# Altium schematic symbol library IC.SchLib: 26 symbols
Pins are listed as number, name and electrical type; pins without a type are passive.

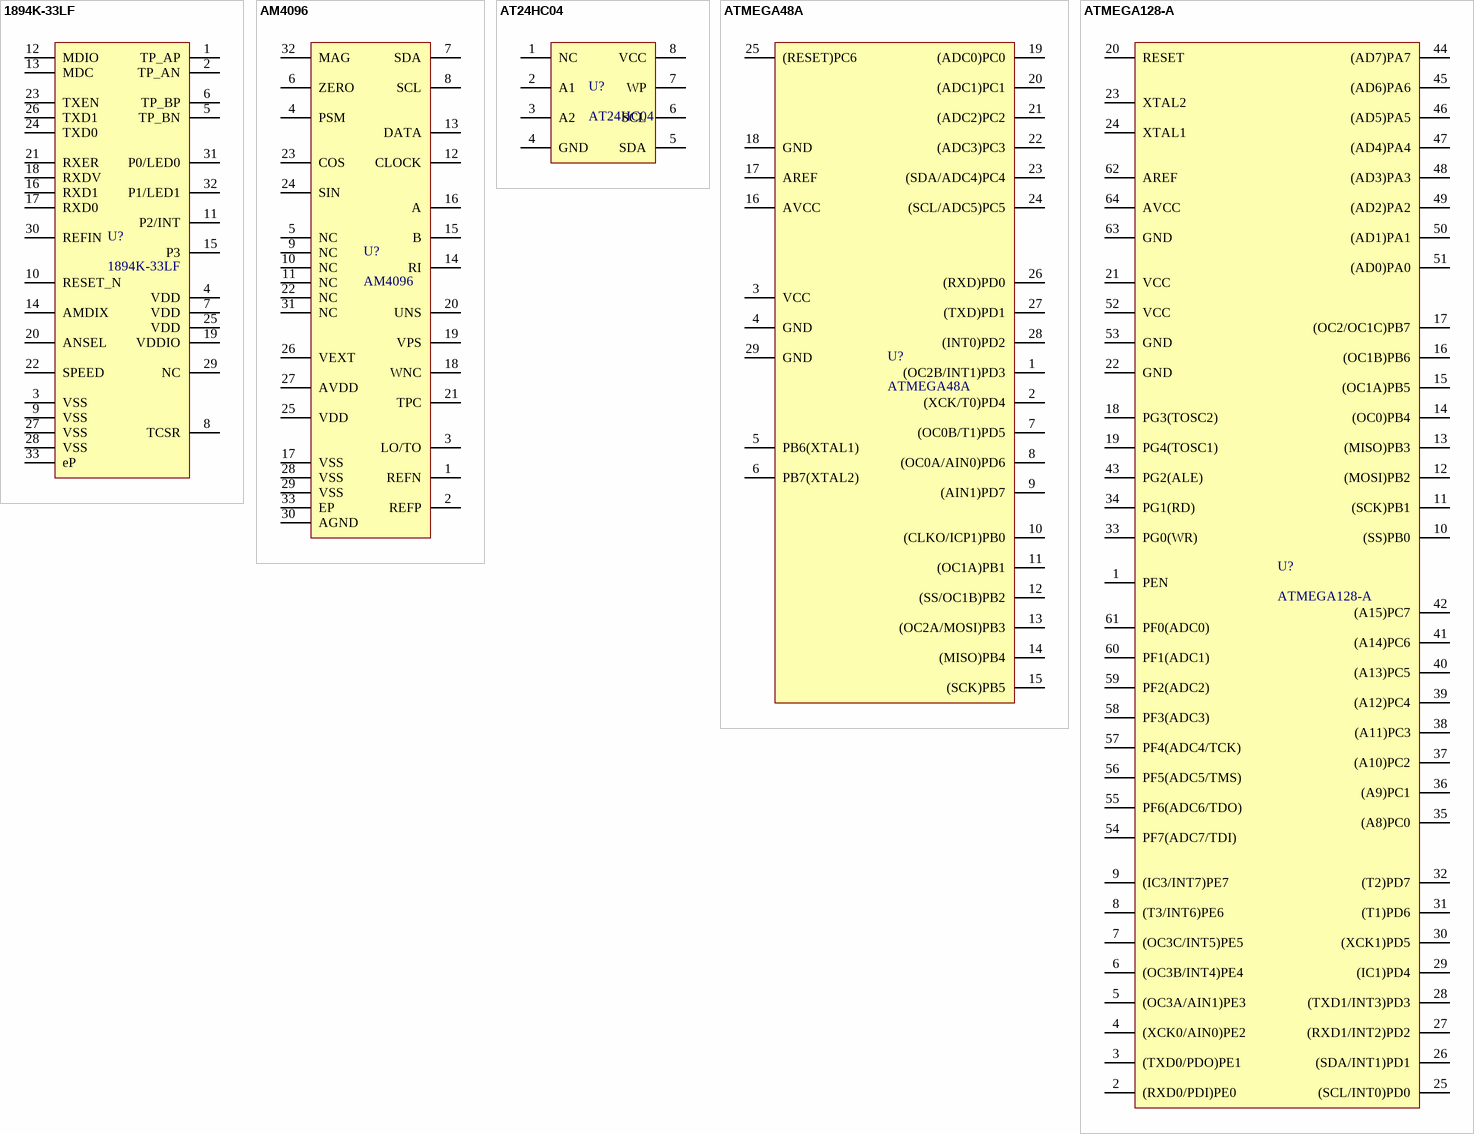
[diagram p0: symbols 1894K-33LF to ATMEGA128-A]

## 1894K-33LF
designator U?
Ethernet ICs 3.3V 10/100 PHY RMII; Manufacturer: Renesas; Distributor: Mouser; Distributor ID: 972-1894K-33LF; Part Number: 1894K-33LF
footprint QFN50P500X500X100_HS-33N (QFN, 32-Leads, Body 5.00x5.00mm, Pitch 0.50mm, Thermal Pad 3.15x3.15mm, IPC Medium Density)
pins: 1 TP_AP, 2 TP_AN, 3 VSS, 4 VDD, 5 TP_BN, 6 TP_BP, 7 VDD, 8 TCSR, 9 VSS, 10 RESET_N, 11 P2/INT, 12 MDIO, 13 MDC, 14 AMDIX, 15 P3, 16 RXD1, 17 RXD0, 18 RXDV, 19 VDDIO, 20 ANSEL, 21 RXER, 22 SPEED, 23 TXEN, 24 TXD0, 25 VDD, 26 TXD1, 27 VSS, 28 VSS, 29 NC, 30 REFIN, 31 P0/LED0, 32 P1/LED1, 33 eP

## AM4096
designator U?
12 bit Rotary Magnetic Encoder IC; Manufacturer: RLS; Distributor: RLS; Distributor ID: AM4096; Part Number: AM4096
footprint QFN65P600X600X100_HS-33N (QFN, 32-Leads, Body 6.00x6.00mm, Pitch 0.65mm, Thermal Pad 4.65x4.65mm, IPC Medium Density)
pins: 1 REFN, 2 REFP, 3 LO/TO, 4 PSM, 5 NC, 6 ZERO, 7 SDA, 8 SCL, 9 NC, 10 NC, 11 NC, 12 CLOCK, 13 DATA, 14 RI, 15 B, 16 A, 17 VSS, 18 WNC, 19 VPS, 20 UNS, 21 TPC, 22 NC, 23 COS, 24 SIN, 25 VDD, 26 VEXT, 27 AVDD, 28 VSS, 29 VSS, 30 AGND, 31 NC, 32 MAG, 33 EP

## AT24HC04
designator U?
EEPROM 4K - 512 x 9 1.8V to 5.5V supply; Manufacturer: Atmel; Part Number: AT24HC04BN-SH-T; Distributor: Mouser; Distributor ID: 556-AT24HC04BN-SH-T
footprint SOIC-8
pins: 1 NC, 2 A1, 3 A2, 4 GND, 5 SDA, 6 SCL, 7 WP, 8 VCC

## ATMEGA48A
designator U?
8-bit Microcontrollers - MCU AVR 4KB FLSH 256B EE 512B SRAM-20MHz IND; Manufacturer: Atmel; Part Number: ATMEGA48A-MMHR; Distributor: Mouser; Distributor ID: 556-ATMEGA48A-MMHR
footprint QFN45P400X400X100_HS-29N (QFN, 28-Leads, Body 4.00x4.00mm, Pitch 0.45mm, Thermal Pad 2.40x2.40mm, IPC Medium Density)
pins: 1 (OC2B/INT1)PD3, 2 (XCK/T0)PD4, 3 VCC, 4 GND, 5 PB6(XTAL1), 6 PB7(XTAL2), 7 (OC0B/T1)PD5, 8 (OC0A/AIN0)PD6, 9 (AIN1)PD7, 10 (CLKO/ICP1)PB0, 11 (OC1A)PB1, 12 (SS/OC1B)PB2, 13 (OC2A/MOSI)PB3, 14 (MISO)PB4, 15 (SCK)PB5, 16 AVCC, 17 AREF, 18 GND, 19 (ADC0)PC0, 20 (ADC1)PC1, 21 (ADC2)PC2, 22 (ADC3)PC3, 23 (SDA/ADC4)PC4, 24 (SCL/ADC5)PC5, 25 (RESET)PC6, 26 (RXD)PD0, 27 (TXD)PD1, 28 (INT0)PD2, 29 GND

## ATMEGA128-A
designator U?
8-bit Microcontrollers - MCU 128K Flash 4K EEPROM 4K SRAM 53 IO Pins; Manufacturer: Atmel; Part Number: ATMEGA128A-AU; Distributor: Mouser; Distributor ID: 556-ATMEGA128A-AU
footprint TQFP64 (CQFP, 64-Leads, Body 16,00x16,00mm, Pitch 0,80mm, IPC Medium Density)
pins: 1 PEN, 2 (RXD0/PDI)PE0, 3 (TXD0/PDO)PE1, 4 (XCK0/AIN0)PE2, 5 (OC3A/AIN1)PE3, 6 (OC3B/INT4)PE4, 7 (OC3C/INT5)PE5, 8 (T3/INT6)PE6, 9 (IC3/INT7)PE7, 10 (SS)PB0, 11 (SCK)PB1, 12 (MOSI)PB2, 13 (MISO)PB3, 14 (OC0)PB4, 15 (OC1A)PB5, 16 (OC1B)PB6, 17 (OC2/OC1C)PB7, 18 PG3(TOSC2), 19 PG4(TOSC1), 20 RESET, 21 VCC, 22 GND, 23 XTAL2, 24 XTAL1, 25 (SCL/INT0)PD0, 26 (SDA/INT1)PD1, 27 (RXD1/INT2)PD2, 28 (TXD1/INT3)PD3, 29 (IC1)PD4, 30 (XCK1)PD5, 31 (T1)PD6, 32 (T2)PD7, 33 PG0(WR), 34 PG1(RD), 35 (A8)PC0, 36 (A9)PC1, 37 (A10)PC2, 38 (A11)PC3, 39 (A12)PC4, 40 (A13)PC5, 41 (A14)PC6, 42 (A15)PC7, 43 PG2(ALE), 44 (AD7)PA7, 45 (AD6)PA6, 46 (AD5)PA5, 47 (AD4)PA4, 48 (AD3)PA3, 49 (AD2)PA2, 50 (AD1)PA1, 51 (AD0)PA0, 52 VCC, 53 GND, 54 PF7(ADC7/TDI), 55 PF6(ADC6/TDO), 56 PF5(ADC5/TMS), 57 PF4(ADC4/TCK), 58 PF3(ADC3), 59 PF2(ADC2), 60 PF1(ADC1), 61 PF0(ADC0), 62 AREF, 63 GND, 64 AVCC

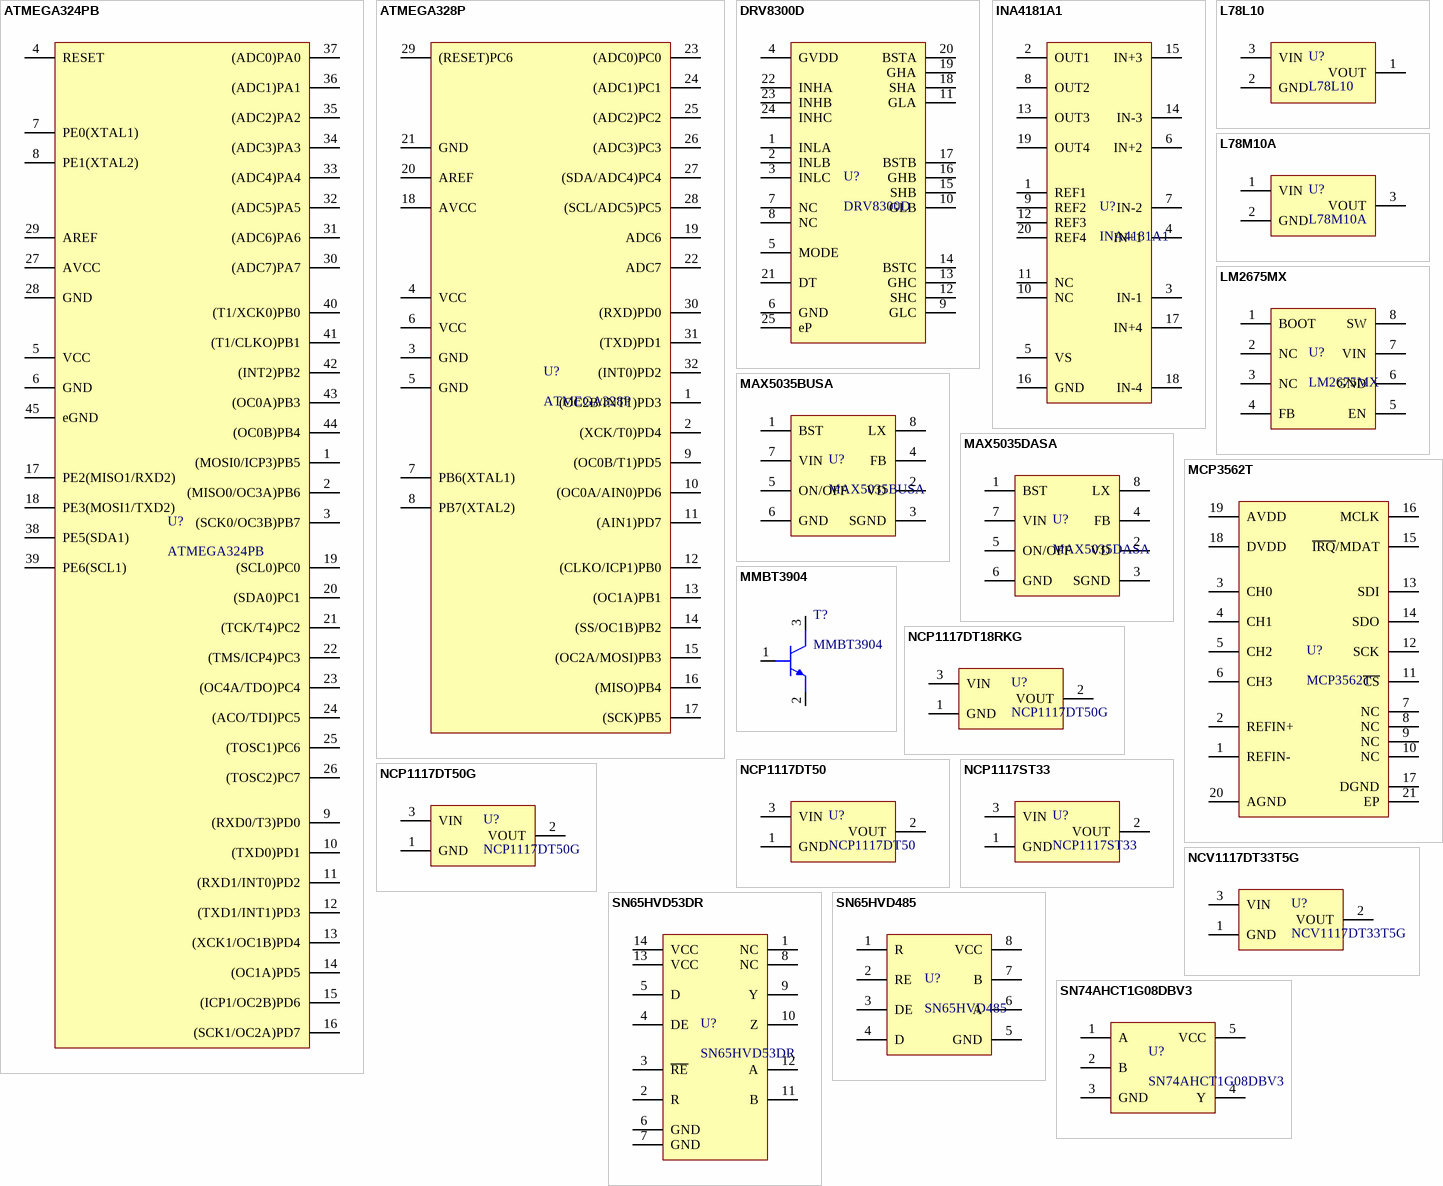
[diagram p1: symbols ATMEGA324PB to SN74AHCT1G08DBV3]

## ATMEGA324PB
designator U?
8-bit Microcontrollers - MCU 20MHZ, TQFP, Extended TEMP, GREEN 5 V; Manufacturer: Atmel; Part Number: ATMEGA324PB-AN; Distributor: Mouser; Distributor ID: 556-ATMEGA324PB-AN
footprint QFN50P700X700X100_HS-45N (QFN, 44-Leads, Body 7.00x7.00mm, Pitch 0.50mm, Thermal Pad 5.20x5.20mm, IPC Medium Density)
pins: 1 (MOSI0/ICP3)PB5, 2 (MISO0/OC3A)PB6, 3 (SCK0/OC3B)PB7, 4 RESET, 5 VCC, 6 GND, 7 PE0(XTAL1), 8 PE1(XTAL2), 9 (RXD0/T3)PD0, 10 (TXD0)PD1, 11 (RXD1/INT0)PD2, 12 (TXD1/INT1)PD3, 13 (XCK1/OC1B)PD4, 14 (OC1A)PD5, 15 (ICP1/OC2B)PD6, 16 (SCK1/OC2A)PD7, 17 PE2(MISO1/RXD2), 18 PE3(MOSI1/TXD2), 19 (SCL0)PC0, 20 (SDA0)PC1, 21 (TCK/T4)PC2, 22 (TMS/ICP4)PC3, 23 (OC4A/TDO)PC4, 24 (ACO/TDI)PC5, 25 (TOSC1)PC6, 26 (TOSC2)PC7, 27 AVCC, 28 GND, 29 AREF, 30 (ADC7)PA7, 31 (ADC6)PA6, 32 (ADC5)PA5, 33 (ADC4)PA4, 34 (ADC3)PA3, 35 (ADC2)PA2, 36 (ADC1)PA1, 37 (ADC0)PA0, 38 PE5(SDA1), 39 PE6(SCL1), 40 (T1/XCK0)PB0, 41 (T1/CLKO)PB1, 42 (INT2)PB2, 43 (OC0A)PB3, 44 (OC0B)PB4, 45 eGND

## ATMEGA328P
designator U?
8-bit Microcontrollers - MCU 32KB In-system Flash 20MHz 1.8V-5.5V; Manufacturer: Atmel; Part Number: ATMEGA328P-AU; Distributor: Mouser; Distributor ID: 556-ATMEGA328P-AU
footprint TQFP32 (CQFP, 32-Leads, Body 9,00x9,00mm, Pitch 0,80mm, IPC Medium Density)
pins: 1 (OC2B/INT1)PD3, 2 (XCK/T0)PD4, 3 GND, 4 VCC, 5 GND, 6 VCC, 7 PB6(XTAL1), 8 PB7(XTAL2), 9 (OC0B/T1)PD5, 10 (OC0A/AIN0)PD6, 11 (AIN1)PD7, 12 (CLKO/ICP1)PB0, 13 (OC1A)PB1, 14 (SS/OC1B)PB2, 15 (OC2A/MOSI)PB3, 16 (MISO)PB4, 17 (SCK)PB5, 18 AVCC, 19 ADC6, 20 AREF, 21 GND, 22 ADC7, 23 (ADC0)PC0, 24 (ADC1)PC1, 25 (ADC2)PC2, 26 (ADC3)PC3, 27 (SDA/ADC4)PC4, 28 (SCL/ADC5)PC5, 29 (RESET)PC6, 30 (RXD)PD0, 31 (TXD)PD1, 32 (INT0)PD2

## DRV8300D
designator U?
Gate Drivers 100-V max simple 3-phase gate driver with bootstrap diodes 24-VQFN -40 to 125; Manufacturer: Texas Instruments; Part Number: DRV8300DRGER; Distributor: Mouser; Distributor ID: 595-DRV8300DRGER
footprint PQFN50P400X400X100_HS-25N (PQFN, 24-Leads, Body 4.00x4.00mm, Pitch 0.50mm, Thermal Pad 2.45x2.45mm, IPC Medium Density)
pins: 1 INLA, 2 INLB, 3 INLC, 4 GVDD, 5 MODE, 6 GND, 7 NC, 8 NC, 9 GLC, 10 GLB, 11 GLA, 12 SHC, 13 GHC, 14 BSTC, 15 SHB, 16 GHB, 17 BSTB, 18 SHA, 19 GHA, 20 BSTA, 21 DT, 22 INHA, 23 INHB, 24 INHC, 25 eP

## INA4181A1
designator U?
Current Sense Amplifiers 26V, quad channel, bi-directional, 350kHz current sense amplifier 20-TSSOP -40 to 125; Manufacturer: Texas Instruments; Part Number: INA4181A1IPWR; Distributor: Mouser; Distributor ID: 595-INA4181A1IPWR
footprint TSOP65P640X120-20N (TSOP, 20-Leads, Body 6.50x4.40mm, Pitch 0.65mm, IPC Medium Density)
pins: 1 REF1, 2 OUT1, 3 IN-1, 4 IN+1, 5 VS, 6 IN+2, 7 IN-2, 8 OUT2, 9 REF2, 10 NC, 11 NC, 12 REF3, 13 OUT3, 14 IN-3, 15 IN+3, 16 GND, 17 IN+4, 18 IN-4, 19 OUT4, 20 REF4

## L78L10
designator U?
Linear Voltage Regulators 10V 0.1A Positive; Manufacturer: STMicroelectronics; Part Number: L78L10ACUTR; Distributor: Mouser; Distributor ID: 511-L78L10ACU
footprint SOT-89
pins: 1 VOUT, 2 GND, 3 VIN

## L78M10A
designator U?
Linear Voltage Regulators Precision 500mA REG; Manufacturer: STMicroelectronics; Part Number: L78M10ABDT-TR; Distributor: Mouser; Distributor ID: 511-L78M10ABDT-TR
footprint DPAK
pins: 1 VIN, 2 GND, 3 VOUT

## LM2675MX
designator U?
Switching Voltage Regulators HIGH EFF 1A STEP- DOWN VLTG REG; Manufacturer: Texas Instruments; Part Number: LM2675MX-ADJ/NOPB; Distributor: Mouser; Distributor ID: 926-LM2675MX-ADJNOPB
footprint SOIC-8
pins: 1 BOOT, 2 NC, 3 NC, 4 FB, 5 EN, 6 GND, 7 VIN, 8 SW

## MAX5035BUSA
designator U?
Switching Voltage Regulators 1A, 76V, High-Efficiency MAXPower Step-Down DC-DC Converter; Manufacturer: Maxim Integrated; Part Number: MAX5035BUSA+T; Distributor: Mouser; Distributor ID: 700-MAX5035BUSAT
footprint SOIC-8
pins: 1 BST, 2 VD, 3 SGND, 4 FB, 5 ON/OFF, 6 GND, 7 VIN, 8 LX

## MAX5035DASA
designator U?
Switching Voltage Regulators 1A, 76V, High-Efficiency MAXPower Step-Down DC-DC Converter; Manufacturer: Maxim Integrated; Part Number: MAX5035DASA+; Distributor: Mouser; Distributor ID: 700-MAX5035DASA
footprint SOIC-8
pins: 1 BST, 2 VD, 3 SGND, 4 FB, 5 ON/OFF, 6 GND, 7 VIN, 8 LX

## MCP3562T
designator U?
Analog to Digital Converters - ADC 24-bit delta-sigma ADC, Dual channel, 3V; Manufacturer: Microchip; Part Number: MCP3562T-E/NC; Distributor: Mouser; Distributor ID: 579-MCP3562T-E/NC
footprint QFN40P300X300X60_HS-21N (QFN, 20-Leads, Body 3.00x3.00mm, Pitch 0.40mm, Thermal Pad 1.80x1.80mm, IPC Medium Density)
pins: 1 REFIN-, 2 REFIN+, 3 CH0, 4 CH1, 5 CH2, 6 CH3, 7 NC, 8 NC, 9 NC, 10 NC, 11 ~{CS}, 12 SCK, 13 SDI, 14 SDO, 15 ~{IRQ}/MDAT, 16 MCLK, 17 DGND, 18 DVDD, 19 AVDD, 20 AGND, 21 EP

## MMBT3904
designator T?
Bipolar Transistors - BJT NPN GENERAL PURPOSE; Manufacturer: ON Semiconductor; Part Number: MMBT3904LT1G; Distributor: Mouser; Distributor ID: 863-MMBT3904LT1G
footprint SOT-23_N (SOT23, 3-Leads, Body 2.9x1.3mm, Pitch 0.95mm, Lead Span 2.3mm, IPC Medium Density)
pins: 1, 2, 3

## NCP1117DT18RKG
designator U?, comment NCP1117DT50G
NCP1117DT18RKG / LDO 1,8V 1A
footprint NCV1117DT33T5G (NCV1117DT33T5G 3.3V LDO)
pins: 1 GND, 2 VOUT, 3 VIN

## NCP1117DT50
designator U?
LDO Voltage Regulators 5.0V 1A Positive; Manufacturer: onsemi; Part Number: NCP1117DT50RKG; Distributor: Mouser; Distributor ID: 863-NCP1117DT50RKG
footprint DPAK
pins: 1 GND, 2 VOUT, 3 VIN

## NCP1117DT50G
designator U?
NCP1117DT50G / LDO 5V 1A
footprint NCP1117DT50G (LDO 5V)
pins: 1 GND, 2 VOUT, 3 VIN

## NCP1117ST33
designator U?
DO Voltage Regulators 3.3V 1A Positive; Manufacturer: onsemi; Part Number: NCP1117ST33T3G; Distributor: Mouser; Distributor ID: 863-NCP1117ST33T3G
footprint SOT223-4 (SOT223, 4-Leads, Body 6,50x7,00mm (avg), Pitch 2,30mm, IPC Medium Density)
pins: 1 GND, 2 VOUT, 3 VIN

## NCV1117DT33T5G
designator U?
LDO 3.3V / NCV1117DT33T5G
footprint NCV1117DT33T5G (NCV1117DT33T5G 3.3V LDO)
pins: 1 GND, 2 VOUT, 3 VIN

## SN65HVD53DR
designator U?
RS-422/RS-485 Interface IC Hi-Output Full-dplx Driver and Receiver; Manufacturer: Texas Instruments; Distributor: Mouser; Distributor ID: 595-SN65HVD53DR; Part Number: SN65HVD53DR
footprint SOIC127P600X175-14N (SOIC, 14-Leads, Body 8.65x3.90mm, Pitch 1.27mm, IPC Medium Density)
pins: 1 NC, 2 R, 3 ~{RE}, 4 DE, 5 D, 6 GND, 7 GND, 8 NC, 9 Y, 10 Z, 11 B, 12 A, 13 VCC, 14 VCC

## SN65HVD485
designator U?
RS-485 Interface IC Half-Duplex RS-485 Transceiver; Manufacturer: Texas Instruments; Part Number: SN65HVD485EDR; Distributor: Mouser; Distributor ID: 595-SN65HVD485EDR
footprint SOIC-8
pins: 1 R, 2 RE, 3 DE, 4 D, 5 GND, 6 A, 7 B, 8 VCC

## SN74AHCT1G08DBV3
designator U?
Logic Gates Single 2-input, 4.5-V to 5.5-V AND gate with TTL-compatible CMOS inputs 5-SOT-23 -40 to 125; Manufacturer: Texas Instruments; Distributor: Mouser; Distributor ID: 595-SN74AHCT1G08DBV3; Part Number: SN74AHCT1G08DBV3
footprint SOT95P280X145-5N (SOT23, 5-Leads, Body 2.90x2.80mm, Pitch 0.95mm, IPC Medium Density)
pins: 1 A, 2 B, 3 GND, 4 Y, 5 VCC

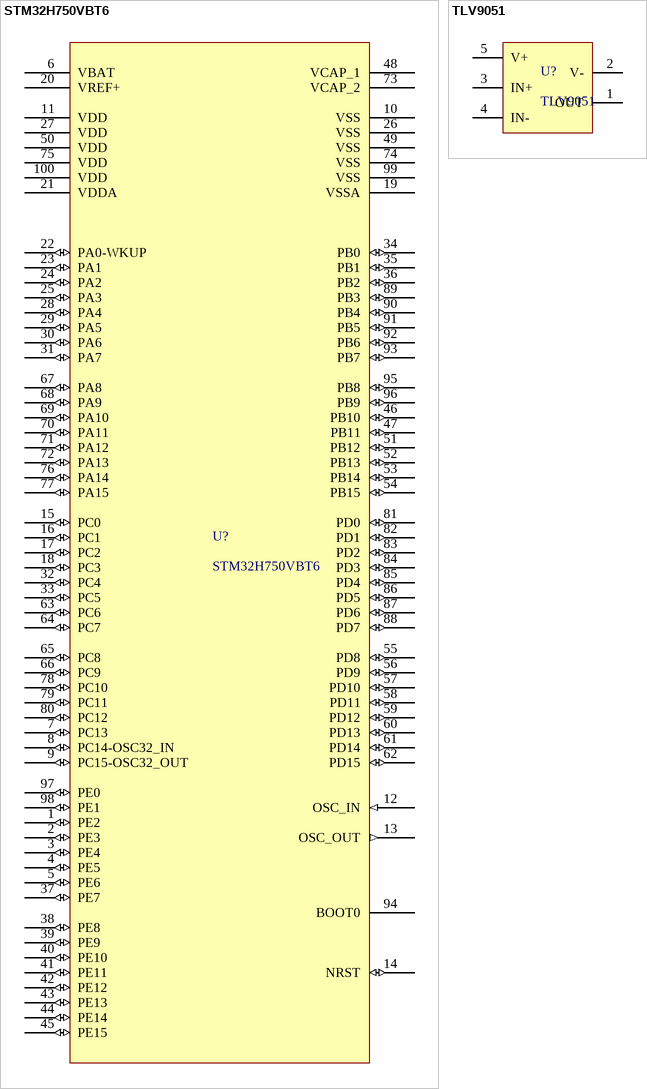
[diagram p2: symbols STM32H750VBT6 to TLV9051]

## STM32H750VBT6
designator U?
ARM Microcontrollers - MCU High-performance & DSP DP-FPU, Arm Cortex-M7 MCU 128 Kbytes of Flash 1MB RAM, 48; Manufacturer: STMicroelectronics; Distributor 1: Mouser; Distributor 1 ID: 511-STM32H750VBT6; Part Number: STM32H750VBT6; Second Source: *; ComponentLink1Description: Datasheet; ComponentLink1URL: https://www.mouser.pl/datasheet/2/389/dm00496677-1799334.pdf; ComponentLink2Description: Distributor 1; ComponentLink2URL: https://www.mouser.pl/ProductDetail/STMicroelectronics/STM32H750VBT6?qs=%252BEew9%252B0nqrBAeuu%2FsQQSzQ%3D%3D
footprint LQFP100
pins: 1 PE2 (io), 2 PE3 (io), 3 PE4 (io), 4 PE5 (io), 5 PE6 (io), 6 VBAT (power), 7 PC13 (io), 8 PC14-OSC32_IN (io), 9 PC15-OSC32_OUT (io), 10 VSS (power), 11 VDD (power), 12 OSC_IN (in), 13 OSC_OUT (out), 14 NRST (io), 15 PC0 (io), 16 PC1 (io), 17 PC2 (io), 18 PC3 (io), 19 VSSA (power), 20 VREF+ (power), 21 VDDA (power), 22 PA0-WKUP (io), 23 PA1 (io), 24 PA2 (io), 25 PA3 (io), 26 VSS (power), 27 VDD (power), 28 PA4 (io), 29 PA5 (io), 30 PA6 (io), 31 PA7 (io), 32 PC4 (io), 33 PC5 (io), 34 PB0 (io), 35 PB1 (io), 36 PB2 (io), 37 PE7 (io), 38 PE8 (io), 39 PE9 (io), 40 PE10 (io), 41 PE11 (io), 42 PE12 (io), 43 PE13 (io), 44 PE14 (io), 45 PE15 (io), 46 PB10 (io), 47 PB11 (io), 48 VCAP_1 (power), 49 VSS (power), 50 VDD (power), 51 PB12 (io), 52 PB13 (io), 53 PB14 (io), 54 PB15 (io), 55 PD8 (io), 56 PD9 (io), 57 PD10 (io), 58 PD11 (io), 59 PD12 (io), 60 PD13 (io), 61 PD14 (io), 62 PD15 (io), 63 PC6 (io), 64 PC7 (io), 65 PC8 (io), 66 PC9 (io), 67 PA8 (io), 68 PA9 (io), 69 PA10 (io), 70 PA11 (io), 71 PA12 (io), 72 PA13 (io), 73 VCAP_2 (power), 74 VSS (power), 75 VDD (power), 76 PA14 (io), 77 PA15 (io), 78 PC10 (io), 79 PC11 (io), 80 PC12 (io), 81 PD0 (io), 82 PD1 (io), 83 PD2 (io), 84 PD3 (io), 85 PD4 (io), 86 PD5 (io), 87 PD6 (io), 88 PD7 (io), 89 PB3 (io), 90 PB4 (io), 91 PB5 (io), 92 PB6 (io), 93 PB7 (io), 94 BOOT0, 95 PB8 (io), 96 PB9 (io), 97 PE0 (io), 98 PE1 (io), 99 VSS (power), 100 VDD (power)

## TLV9051
designator U?
Operational Amplifiers - Op Amps Single 5-MHz, 15-V/&micro;s high slew-rate, RRIO op amp 5-SOT-23 -40 to 125; Manufacturer: Texas Instruments; Part Number: TLV9051IDBVR; Distributor: Mouser; Distributor ID: 595-TLV9051IDBVR
footprint SOT95P280X145-5N (SOT23, 5-Leads, Body 2.90x2.80mm, Pitch 0.95mm, IPC Medium Density)
pins: 1 OUT, 2 V-, 3 IN+, 4 IN-, 5 V+